# EAGLE library part M34554(64PIN) (library renesas_mcu)
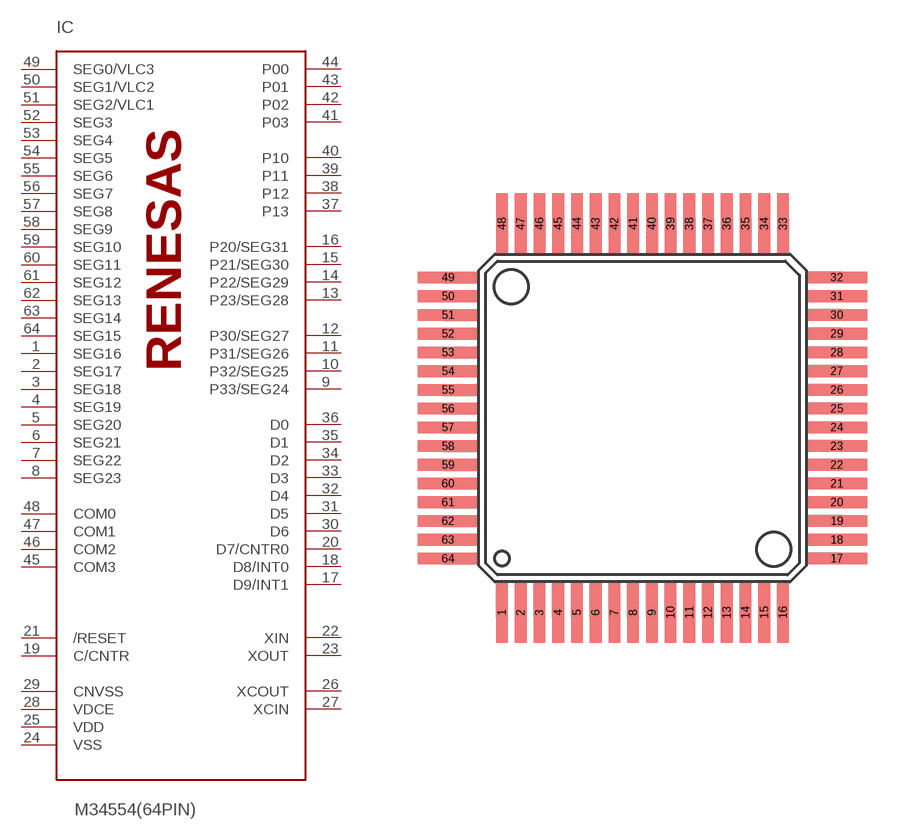
[diagram p56: symbol with the pads of 64P6N-A; footprint 64P6N-A]

Designator prefix IC

## M34554(64PIN)  [64P6N-A]
1  SEG16  out
2  SEG17  out
3  SEG18  out
4  SEG19  out
5  SEG20  out
6  SEG21  out
7  SEG22  out
8  SEG23  out
9  P33/SEG24  out
10  P32/SEG25  out
11  P31/SEG26  out
12  P30/SEG27  out
13  P23/SEG28  out
14  P22/SEG29  out
15  P21/SEG30  out
16  P20/SEG31  out
17  D9/INT1  out
18  D8/INT0  out
19  C/CNTR
20  D7/CNTR0  out
21  /RESET
22  XIN  in
23  XOUT  out
24  VSS  pwr
25  VDD  pwr
26  XCOUT  out
27  XCIN  out
28  VDCE  out
29  CNVSS
30  D6
31  D5
32  D4  out
33  D3  out
34  D2  out
35  D1  out
36  D0  out
37  P13
38  P12
39  P11
40  P10
41  P03
42  P02
43  P01
44  P00
45  COM3  out
46  COM2  out
47  COM1  out
48  COM0  out
49  SEG0/VLC3  out
50  SEG1/VLC2  out
51  SEG2/VLC1  out
52  SEG3  out
53  SEG4  out
54  SEG5  out
55  SEG6  out
56  SEG7  out
57  SEG8  out
58  SEG9  out
59  SEG10  out
60  SEG11  out
61  SEG12  out
62  SEG13  out
63  SEG14  out
64  SEG15  out

## Footprint 64P6N-A (pad centres in mm)
smd 0.5 x 2.6: 1 -6,-8.3; 2 -5.2,-8.3; 3 -4.4,-8.3; 4 -3.6,-8.3; 5 -2.8,-8.3; 6 -2,-8.3; 7 -1.2,-8.3; 8 -0.4,-8.3; 9 0.4,-8.3; 10 1.2,-8.3; 11 2,-8.3; 12 2.8,-8.3; 13 3.6,-8.3; 14 4.4,-8.3; 15 5.2,-8.3; 16 6,-8.3; 33 6,8.3; 34 5.2,8.3; 35 4.4,8.3; 36 3.6,8.3; 37 2.8,8.3; 38 2,8.3; 39 1.2,8.3; 40 0.4,8.3; 41 -0.4,8.3; 42 -1.2,8.3; 43 -2,8.3; 44 -2.8,8.3; 45 -3.6,8.3; 46 -4.4,8.3; 47 -5.2,8.3; 48 -6,8.3
smd 2.6 x 0.5: 17 8.3,-6; 18 8.3,-5.2; 19 8.3,-4.4; 20 8.3,-3.6; 21 8.3,-2.8; 22 8.3,-2; 23 8.3,-1.2; 24 8.3,-0.4; 25 8.3,0.4; 26 8.3,1.2; 27 8.3,2; 28 8.3,2.8; 29 8.3,3.6; 30 8.3,4.4; 31 8.3,5.2; 32 8.3,6; 49 -8.3,6; 50 -8.3,5.2; 51 -8.3,4.4; 52 -8.3,3.6; 53 -8.3,2.8; 54 -8.3,2; 55 -8.3,1.2; 56 -8.3,0.4; 57 -8.3,-0.4; 58 -8.3,-1.2; 59 -8.3,-2; 60 -8.3,-2.8; 61 -8.3,-3.6; 62 -8.3,-4.4; 63 -8.3,-5.2; 64 -8.3,-6